# Altium footprint library LPC1768.PcbLib: 1 footprints
Each footprint in its own frame and in the unit in brackets; x right, y up, seen from the top. Pads: shape width x height; smd on the part's side, far side on the other; paste and mask are expansions set on the pad; w line width, h text height; cw(c..) or ccw(c..) is an arc to the next point about the centre after c.
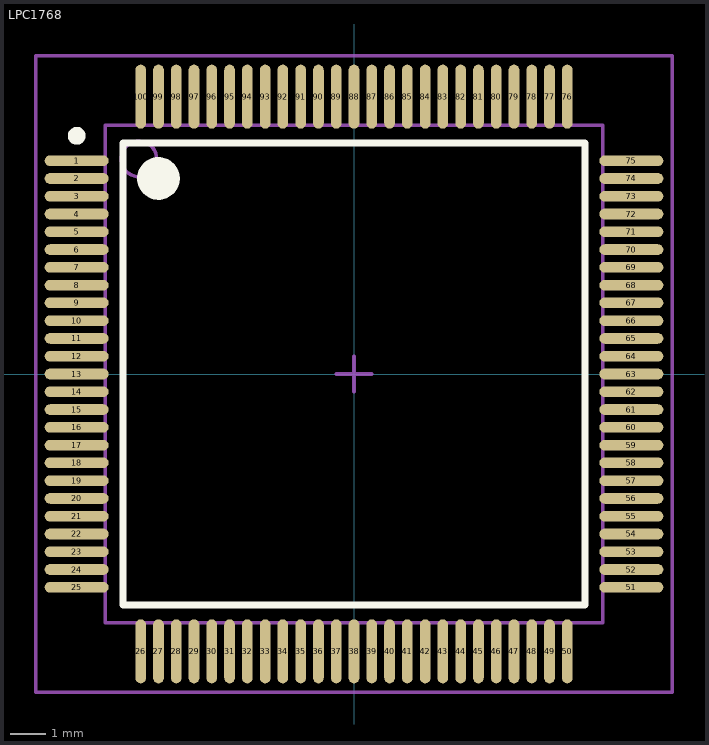
[diagram p0: the footprint, top view; thin cyan lines are the x and y axes]

## LPC1768 [mm] "TSQFP, 100-Leads, Body 16.8x16.8mm (max), Pitch 0.50mm, IPC Medium Density"
height 1.6
pads (100):
  oval 1.8x0.3 smd: 1(-7.8,6) 2(-7.8,5.5) 3(-7.8,5) 4(-7.8,4.5) 5(-7.8,4) 6(-7.8,3.5) 7(-7.8,3) 8(-7.8,2.5) 9(-7.8,2) 10(-7.8,1.5) 11(-7.8,1) 12(-7.8,0.5) 13(-7.8,0) 14(-7.8,-0.5) 15(-7.8,-1) 16(-7.8,-1.5) 17(-7.8,-2) 18(-7.8,-2.5) 19(-7.8,-3) 20(-7.8,-3.5) 21(-7.8,-4) 22(-7.8,-4.5) 23(-7.8,-5) 24(-7.8,-5.5) 25(-7.8,-6) 51(7.8,-6) 52(7.8,-5.5) 53(7.8,-5) 54(7.8,-4.5) 55(7.8,-4) 56(7.8,-3.5) 57(7.8,-3) 58(7.8,-2.5) 59(7.8,-2) 60(7.8,-1.5) 61(7.8,-1) 62(7.8,-0.5) 63(7.8,0) 64(7.8,0.5) 65(7.8,1) 66(7.8,1.5) 67(7.8,2) 68(7.8,2.5) 69(7.8,3) 70(7.8,3.5) 71(7.8,4) 72(7.8,4.5) 73(7.8,5) 74(7.8,5.5) 75(7.8,6)
  oval 0.3x1.8 smd: 26(-6,-7.8) 27(-5.5,-7.8) 28(-5,-7.8) 29(-4.5,-7.8) 30(-4,-7.8) 31(-3.5,-7.8) 32(-3,-7.8) 33(-2.5,-7.8) 34(-2,-7.8) 35(-1.5,-7.8) 36(-1,-7.8) 37(-0.5,-7.8) 38(0,-7.8) 39(0.5,-7.8) 40(1,-7.8) 41(1.5,-7.8) 42(2,-7.8) 43(2.5,-7.8) 44(3,-7.8) 45(3.5,-7.8) 46(4,-7.8) 47(4.5,-7.8) 48(5,-7.8) 49(5.5,-7.8) 50(6,-7.8) 76(6,7.8) 77(5.5,7.8) 78(5,7.8) 79(4.5,7.8) 80(4,7.8) 81(3.5,7.8) 82(3,7.8) 83(2.5,7.8) 84(2,7.8) 85(1.5,7.8) 86(1,7.8) 87(0.5,7.8) 88(0,7.8) 89(-0.5,7.8) 90(-1,7.8) 91(-1.5,7.8) 92(-2,7.8) 93(-2.5,7.8) 94(-3,7.8) 95(-3.5,7.8) 96(-4,7.8) 97(-4.5,7.8) 98(-5,7.8) 99(-5.5,7.8) 100(-6,7.8)
Top Overlay:
  circle w0.25: c-7.8,6.7 r0.125
  circle w0.6: c-5.5,5.5 r0.3
  lines w0.2: -6.5,-6.5 -6.5,6.5 6.5,6.5 6.5,-6.5 -6.5,-6.5
Mechanical 13:
  circle w0.1: c-6.05,6.05 r0.5
  lines w0.1: -7,-7 -7,7 7,7 7,-7 -7,-7
Mechanical 15:
  lines w0.1: -0.5,0 0.5,0 ; 0,-0.5 0,0.5 ; -8.95,-8.95 -8.95,8.95 8.95,8.95 8.95,-8.95 -8.95,-8.95
3D body: height 1.6, standoff 0.05, extent -7,-7 7,7